# Altium schematic symbol library TVS_DOUBLE_SOT23-3.Schlib: 1 symbol
Pins are listed as number, name and electrical type; pins without a type are passive.

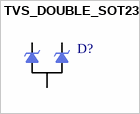
[diagram p0: symbol TVS_DOUBLE_SOT23-3]

## TVS_DOUBLE_SOT23-3
designator D?  (value not drawn)
pins: 1 100, 2, 3